# Altium integrated library wiznet.IntLib: 1 symbol
Pins are listed as number, name and electrical type; pins without a type are passive.

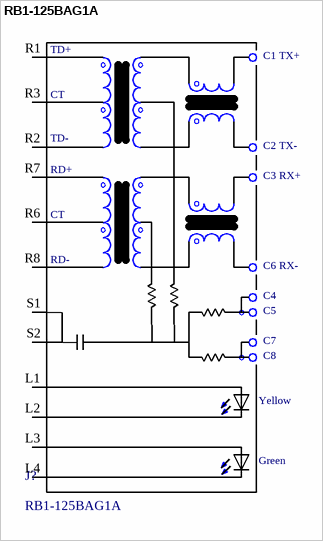
[diagram p0: symbol RB1-125BAG1A]

## RB1-125BAG1A
designator J?
Modular Connectors / Ethernet Connectors RJ-45 w/ Transformer connector/ude
footprint RB1-125BAG1A
pins: L1, L2, L3, L4, R1, R2, R3, R6, R7, R8, S1, S2
text: TD+; C1 TX+; CT; TD-; C2 TX-; RD+; C3 RX+; RD-; C6 RX-; C4; C5; C7; C8; Yellow; Green